# Altium footprint library Carte_design_PCBLib.PcbLib: 39 footprints (part 3 of 3)
Each footprint in its own frame and in the unit in brackets; x right, y up, seen from the top. Pads: shape width x height; smd on the part's side, far side on the other; paste and mask are expansions set on the pad; w line width, h text height; cw(c..) or ccw(c..) is an arc to the next point about the centre after c.
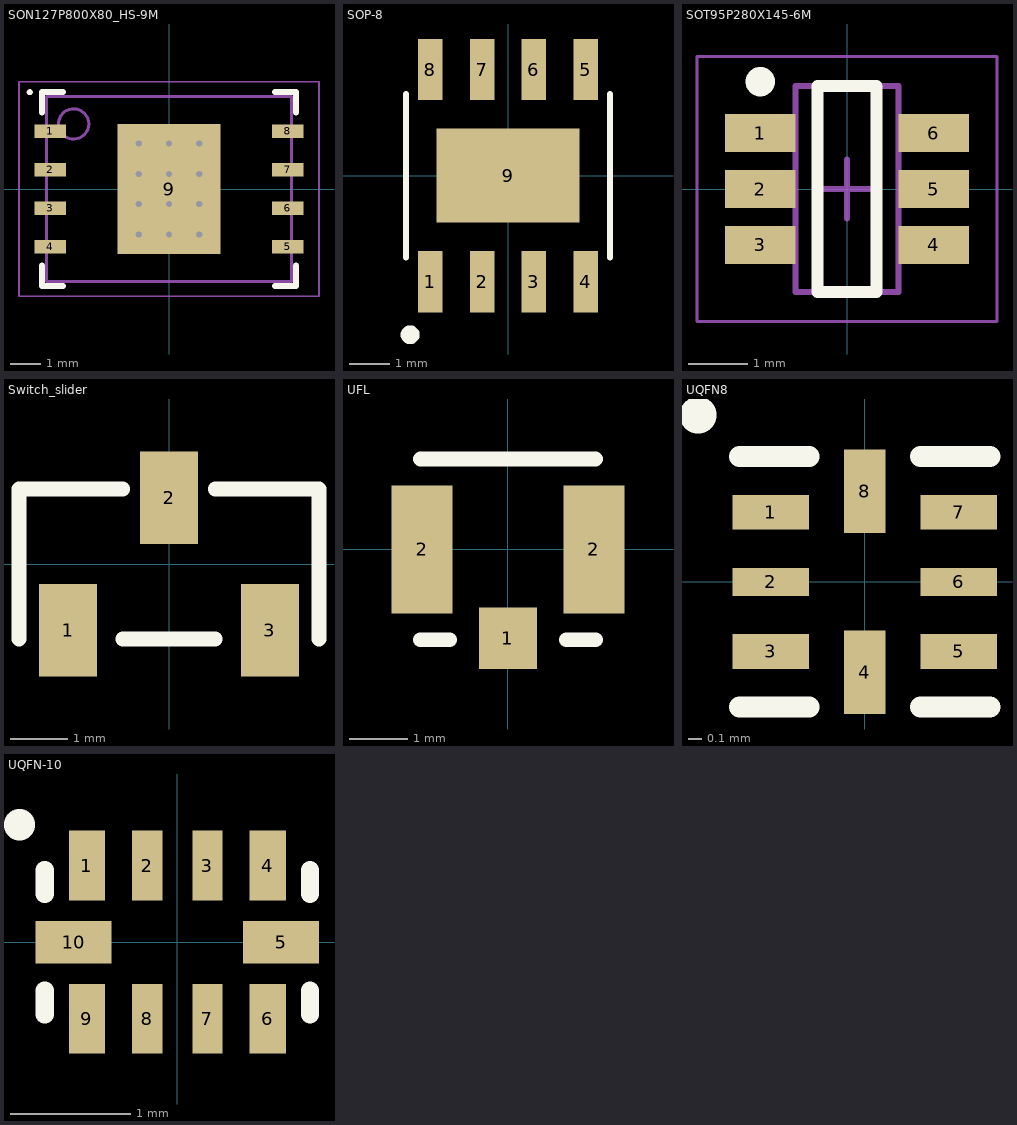
[diagram p2: the footprints below, top view; thin cyan lines are the x and y axes]

## SON127P800X80_HS-9M [mm] "SON, 8-Leads, Body 6,00x8,00mm, Pitch 1,27mm, Thermal Pad 4,30x3,40mm, IPC Low Density"
height 0.8
pads (9):
  rect 1.05x0.45 smd: 1(-3.92,1.905) 2(-3.92,0.635) 3(-3.92,-0.635) 4(-3.92,-1.905) 5(3.92,-1.905) 6(3.92,-0.635) 7(3.92,0.635) 8(3.92,1.905)
  rect 3.4x4.3 smd paste-1.7: 9(0,0)
via 1,-1.5 diameter 0.5 hole 0.2
via 0,-1.5 diameter 0.5 hole 0.2
via -1,-1.5 diameter 0.5 hole 0.2
via 1,-0.5 diameter 0.5 hole 0.2
via 0,-0.5 diameter 0.5 hole 0.2
via -1,-0.5 diameter 0.5 hole 0.2
via 1,0.5 diameter 0.5 hole 0.2
via 0,0.5 diameter 0.5 hole 0.2
via -1,0.5 diameter 0.5 hole 0.2
via 1,1.5 diameter 0.5 hole 0.2
via 0,1.5 diameter 0.5 hole 0.2
via -1,1.5 diameter 0.5 hole 0.2
Top Overlay:
  circle w0.1: c-4.6,3.2 r0.05
  lines w0.2: -4.2,-2.53 -4.2,-3.2 -3.495,-3.2 ; -4.2,2.53 -4.2,3.2 -3.495,3.2 ; 3.495,-3.2 4.2,-3.2 4.2,-2.53 ; 3.495,3.2 4.2,3.2 4.2,2.53
Top Paste:
  rectangle: 0.665,-2.045 1.595,-0.815
  rectangle: 0.665,-0.615 1.595,0.615
  rectangle: 0.665,0.815 1.595,2.045
  rectangle: -0.465,-2.045 0.465,-0.815
  rectangle: -0.465,-0.615 0.465,0.615
  rectangle: -0.465,0.815 0.465,2.045
  rectangle: -1.595,-2.045 -0.665,-0.815
  rectangle: -1.595,-0.615 -0.665,0.615
  rectangle: -1.595,0.815 -0.665,2.045
Mechanical 13:
  circle w0.1: c-3.15,2.15 r0.5
  lines w0.1: -4.05,-3.05 4.05,-3.05 4.05,3.05 -4.05,3.05 -4.05,-3.05
Mechanical 15:
  lines w0.05: -4.955,-3.55 4.955,-3.55 4.955,3.55 -4.955,3.55 -4.955,-3.55
  lines w0.1: -0.5,0 0.5,0 ; 0,-0.5 0,0.5
3D body "SON127P800X80_HS-9M.step": height 0.8, standoff 0, extent -4.1,-3.05 4.1,3.05

## SOP-8 [mm]
pads (9):
  rect 0.6x1.5 smd: 1(-1.905,-2.6) 2(-0.635,-2.6) 3(0.635,-2.6) 4(1.905,-2.6) 5(1.905,2.6) 6(0.635,2.6) 7(-0.635,2.6) 8(-1.905,2.6)
  rect 3.5x2.3 smd: 9(0,0)
Top Overlay:
  circle w0.254: c-2.4,-3.9 r0.104
  lines w0.15: -2.502,-2 -2.502,2 ; 2.502,-2 2.502,2
3D body "User Library-sop8_model.STEP": height 1.55, standoff -0.01, extent -2.489,-3.016 2.411,2.964

## SOT95P280X145-6M [mm] "SOT23, 6-Leads, Body 3,15x2,80mm, Pitch 0,95mm, IPC Low Density"
height 1.45
pads (6):
  rect 1.2x0.65 smd: 1(-1.475,0.95) 2(-1.475,0) 3(-1.475,-0.95) 4(1.475,-0.95) 5(1.475,0) 6(1.475,0.95)
Top Overlay:
  circle w0.25: c-1.475,1.825 r0.125
  lines w0.2: -0.5,-1.75 0.5,-1.75 0.5,1.75 -0.5,1.75 -0.5,-1.75
Mechanical 13:
  lines w0.1: -0.875,-1.75 -0.875,1.75 0.875,1.75 0.875,-1.75 -0.875,-1.75
Mechanical 15:
  lines w0.05: -2.55,-2.25 -2.55,2.25 2.55,2.25 2.55,-2.25 -2.55,-2.25
  lines w0.1: -0.5,0 0.5,0 ; 0,-0.5 0,0.5
3D body: height 1.45, standoff 0, extent -0.875,-1.75 0.875,1.75

## Switch_slider [mm]
pads (3):
  rect 1x1.6 smd: 1(-1.75,-1.15) 2(0,1.15) 3(1.75,-1.15)
Top Overlay:
  lines w0.254: -2.6,-1.3 -2.6,1.3 -0.8,1.3 ; -0.8,-1.3 0.8,-1.3 ; 0.8,1.3 2.6,1.3 2.6,-1.3

## UFL [mm]
pads (3):
  rect 1x1.05 smd: 1(0,-1.525)
  rect 1.05x2.2 smd: 2(-1.475,0) 2(1.475,0)
Top Overlay:
  lines w0.254: -1.5,-1.55 -1,-1.55 ; -1.5,1.55 1.5,1.55 ; 1,-1.55 1.5,-1.55 ; 1.5,-1.55 1.5,-1.55

## UQFN8 [mm]
pads (8):
  rect 0.55x0.25 smd: 1(-0.675,0.5) 3(-0.675,-0.5) 5(0.675,-0.5) 7(0.675,0.5)
  rect 0.55x0.2 smd: 2(-0.675,0) 6(0.675,0)
  rect 0.3x0.6 smd: 4(0,-0.65) 8(0,0.65)
Top Overlay:
  circle w0.254: c-1.2,1.2 r0.007
  lines w0.15: -0.9,-0.9 -0.4,-0.9 ; -0.9,0.9 -0.4,0.9 ; 0.4,-0.9 0.9,-0.9 ; 0.4,0.9 0.9,0.9

## UQFN-10 [mm]
pads (10):
  rect 0.3x0.58 smd: 1(-0.75,0.635) 4(0.75,0.635) 6(0.75,-0.635) 9(-0.75,-0.635)
  rect 0.25x0.58 smd: 2(-0.25,0.635) 3(0.25,0.635) 7(0.25,-0.635) 8(-0.25,-0.635)
  rect 0.63x0.35 smd: 5(0.86,0) 10(-0.86,0)
Top Overlay:
  circle w0.254: c-1.31,0.974 r0.003
  lines w0.15: -1.1,-0.6 -1.1,-0.4 ; -1.1,0.4 -1.1,0.6 ; 1.1,-0.6 1.1,-0.4 ; 1.1,0.4 1.1,0.6
3D body "TPD6E001RSER--3DModel-STEP-56544.STEP": height 0.58, standoff -0.02, extent -1,-0.75 1,0.75